# Altium schematic symbol library SCH - MCU - STM32 - ST MICROELECTRONICS STM32F373C(8-B-C)TX LQFP48.SchLib: 1 symbol
Pins are listed as number, name and electrical type; pins without a type are passive.

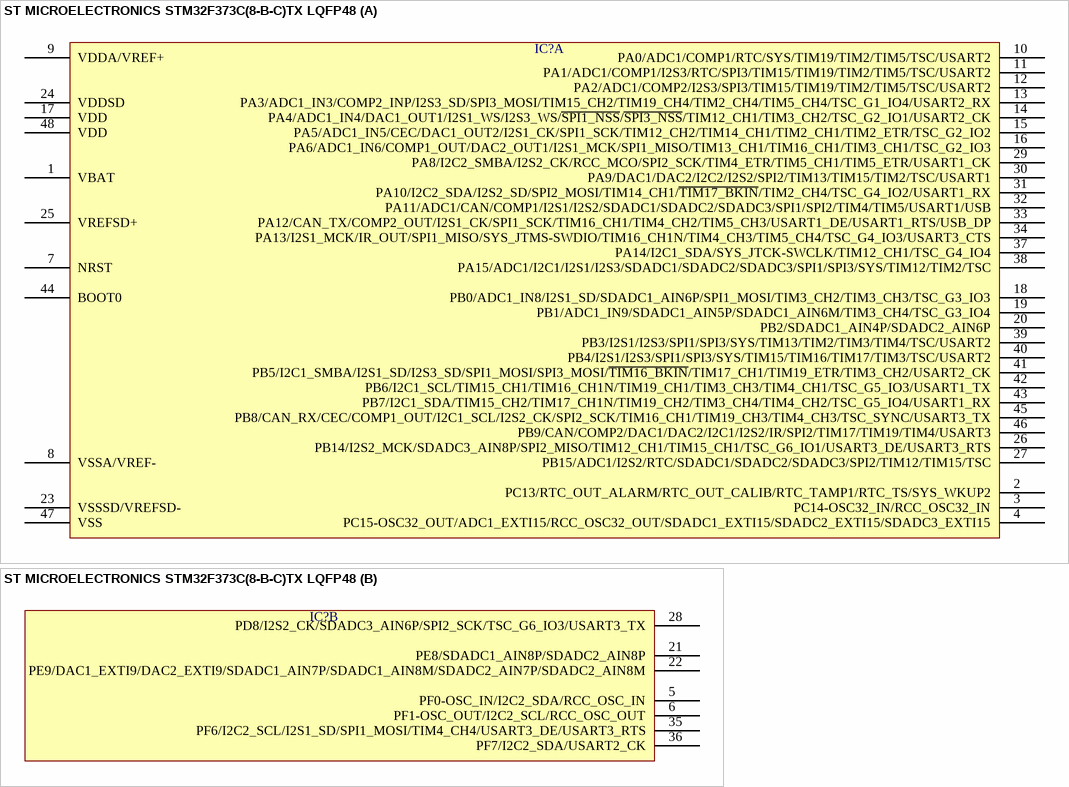
[diagram p0: symbol ST MICROELECTRONICS STM32F373C(8-B-C)TX LQFP48]

## ST MICROELECTRONICS STM32F373C(8-B-C)TX LQFP48
designator IC?  (value not drawn)
part A pins: 1 VBAT, 2 PC13/RTC_OUT_ALARM/RTC_OUT_CALIB/RTC_TAMP1/RTC_TS/SYS_WKUP2, 3 PC14-OSC32_IN/RCC_OSC32_IN, 4 PC15-OSC32_OUT/ADC1_EXTI15/RCC_OSC32_OUT/SDADC1_EXTI15/SDADC2_EXTI15/SDADC3_EXTI15, 7 NRST, 8 VSSA/VREF-, 9 VDDA/VREF+, 10 PA0/ADC1/COMP1/RTC/SYS/TIM19/TIM2/TIM5/TSC/USART2, 11 PA1/ADC1/COMP1/I2S3/RTC/SPI3/TIM15/TIM19/TIM2/TIM5/TSC/USART2, 12 PA2/ADC1/COMP2/I2S3/SPI3/TIM15/TIM19/TIM2/TIM5/TSC/USART2, 13 PA3/ADC1_IN3/COMP2_INP/I2S3_SD/SPI3_MOSI/TIM15_CH2/TIM19_CH4/TIM2_CH4/TIM5_CH4/TSC_G1_IO4/USART2_RX, 14 PA4/ADC1_IN4/DAC1_OUT1/I2S1_WS/I2S3_WS/~{SPI1_NSS}/~{SPI3_NSS}/TIM12_CH1/TIM3_CH2/TSC_G2_IO1/USART2_CK, 15 PA5/ADC1_IN5/CEC/DAC1_OUT2/I2S1_CK/SPI1_SCK/TIM12_CH2/TIM14_CH1/TIM2_CH1/TIM2_ETR/TSC_G2_IO2, 16 PA6/ADC1_IN6/COMP1_OUT/DAC2_OUT1/I2S1_MCK/SPI1_MISO/TIM13_CH1/TIM16_CH1/TIM3_CH1/TSC_G2_IO3, 17 VDD, 18 PB0/ADC1_IN8/I2S1_SD/SDADC1_AIN6P/SPI1_MOSI/TIM3_CH2/TIM3_CH3/TSC_G3_IO3, 19 PB1/ADC1_IN9/SDADC1_AIN5P/SDADC1_AIN6M/TIM3_CH4/TSC_G3_IO4, 20 PB2/SDADC1_AIN4P/SDADC2_AIN6P, 23 VSSSD/VREFSD-, 24 VDDSD, 25 VREFSD+, 26 PB14/I2S2_MCK/SDADC3_AIN8P/SPI2_MISO/TIM12_CH1/TIM15_CH1/TSC_G6_IO1/USART3_DE/USART3_RTS, 27 PB15/ADC1/I2S2/RTC/SDADC1/SDADC2/SDADC3/SPI2/TIM12/TIM15/TSC, 29 PA8/I2C2_SMBA/I2S2_CK/RCC_MCO/SPI2_SCK/TIM4_ETR/TIM5_CH1/TIM5_ETR/USART1_CK, 30 PA9/DAC1/DAC2/I2C2/I2S2/SPI2/TIM13/TIM15/TIM2/TSC/USART1, 31 PA10/I2C2_SDA/I2S2_SD/SPI2_MOSI/TIM14_CH1/~{TIM17_BKIN}/TIM2_CH4/TSC_G4_IO2/USART1_RX, 32 PA11/ADC1/CAN/COMP1/I2S1/I2S2/SDADC1/SDADC2/SDADC3/SPI1/SPI2/TIM4/TIM5/USART1/USB, 33 PA12/CAN_TX/COMP2_OUT/I2S1_CK/SPI1_SCK/TIM16_CH1/TIM4_CH2/TIM5_CH3/USART1_DE/USART1_RTS/USB_DP, 34 PA13/I2S1_MCK/IR_OUT/SPI1_MISO/SYS_JTMS-SWDIO/TIM16_CH1N/TIM4_CH3/TIM5_CH4/TSC_G4_IO3/USART3_CTS, 37 PA14/I2C1_SDA/SYS_JTCK-SWCLK/TIM12_CH1/TSC_G4_IO4, 38 PA15/ADC1/I2C1/I2S1/I2S3/SDADC1/SDADC2/SDADC3/SPI1/SPI3/SYS/TIM12/TIM2/TSC, 39 PB3/I2S1/I2S3/SPI1/SPI3/SYS/TIM13/TIM2/TIM3/TIM4/TSC/USART2, 40 PB4/I2S1/I2S3/SPI1/SPI3/SYS/TIM15/TIM16/TIM17/TIM3/TSC/USART2, 41 PB5/I2C1_SMBA/I2S1_SD/I2S3_SD/SPI1_MOSI/SPI3_MOSI/~{TIM16_BKIN}/TIM17_CH1/TIM19_ETR/TIM3_CH2/USART2_CK, 42 PB6/I2C1_SCL/TIM15_CH1/TIM16_CH1N/TIM19_CH1/TIM3_CH3/TIM4_CH1/TSC_G5_IO3/USART1_TX, 43 PB7/I2C1_SDA/TIM15_CH2/TIM17_CH1N/TIM19_CH2/TIM3_CH4/TIM4_CH2/TSC_G5_IO4/USART1_RX, 44 BOOT0, 45 PB8/CAN_RX/CEC/COMP1_OUT/I2C1_SCL/I2S2_CK/SPI2_SCK/TIM16_CH1/TIM19_CH3/TIM4_CH3/TSC_SYNC/USART3_TX, 46 PB9/CAN/COMP2/DAC1/DAC2/I2C1/I2S2/IR/SPI2/TIM17/TIM19/TIM4/USART3, 47 VSS, 48 VDD
part B pins: 5 PF0-OSC_IN/I2C2_SDA/RCC_OSC_IN, 6 PF1-OSC_OUT/I2C2_SCL/RCC_OSC_OUT, 21 PE8/SDADC1_AIN8P/SDADC2_AIN8P, 22 PE9/DAC1_EXTI9/DAC2_EXTI9/SDADC1_AIN7P/SDADC1_AIN8M/SDADC2_AIN7P/SDADC2_AIN8M, 28 PD8/I2S2_CK/SDADC3_AIN6P/SPI2_SCK/TSC_G6_IO3/USART3_TX, 35 PF6/I2C2_SCL/I2S1_SD/SPI1_MOSI/TIM4_CH4/USART3_DE/USART3_RTS, 36 PF7/I2C2_SDA/USART2_CK